# EAGLE library part AD9832 (library ad)
The AD9832 is a numerically controlled oscillator employing a phase accumulator, a sine look-up table and a 10-bit D/A converter integrated on a single CMOS chip. Modulation capabilities are provided for phase modulation and frequency modulation. Clock rates up to 25 MHz are supported. Frequency accuracy can be controlled to one part in 4 billion. Modulation is effected by loading registers through the serial interface. A power-down bit allows the user to power down the AD9832 when it is not in use, the power consumption being reduced to 5 mW (5 V) or 3 mW (3 V). The part is available in a 16-lead TSSOP package.
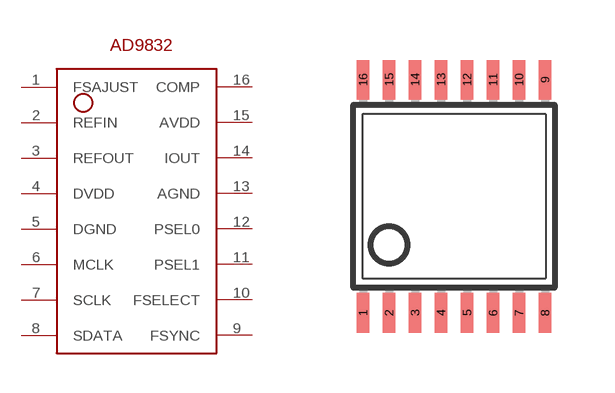
[diagram p3: symbol with the pads of TSSOP16; footprint TSSOP16]

Designator prefix -

## AD9832  [TSSOP16]
1  FSAJUST
2  REFIN
3  REFOUT
4  DVDD
5  DGND
6  MCLK
7  SCLK
8  SDATA
9  FSYNC
10  FSELECT
11  PSEL1
12  PSEL0
13  AGND
14  IOUT
15  AVDD
16  COMP

## Footprint TSSOP16 (pad centres in mm)
Thin Shrink Small Outline Plastic TSSOP16
smd 0.305 x 0.991: 1 -2.275,-2.918; 2 -1.625,-2.918; 3 -0.975,-2.918; 4 -0.325,-2.918; 5 0.325,-2.918; 6 0.975,-2.918; 7 1.625,-2.918; 8 2.275,-2.918; 9 2.275,2.918; 10 1.625,2.918; 11 0.975,2.918; 12 0.325,2.918; 13 -0.325,2.918; 14 -0.975,2.918; 15 -1.625,2.918; 16 -2.275,2.918